# Altium schematic symbol library Symbols.SchLib: 82 symbols
Pins are listed as number, name and electrical type; pins without a type are passive.

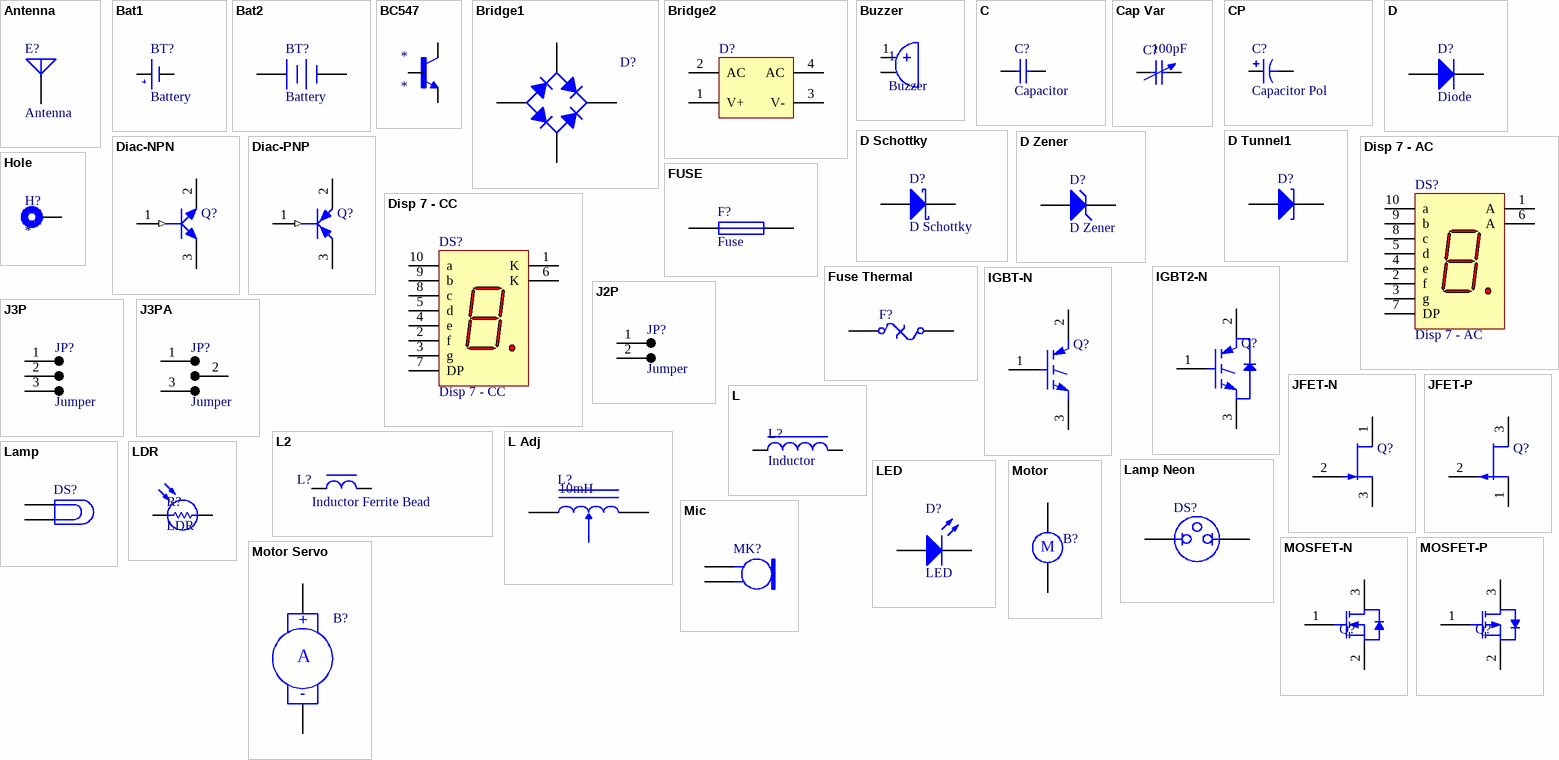
[diagram p0: symbols Antenna to Motor Servo]

## Antenna
designator E?
Generic Antenna; PartNumber: *; Manufacturer: *; Package Type: *
footprint PIN1 (Generic Antenna; 1 Lead)
pins: 1 A

## Bat1
designator BT?, comment Battery
Singlecell Battery; Manufacturer: *; Package Type: *; PartNumber: *
footprint BAT-2
footprint BAT CR2032 (Bateria Lithium 3V CR2032)
pins: 1 +, 2 -

## Bat2
designator BT?, comment Battery
Multicell Battery; Manufacturer: *; Package Type: *; PartNumber: *
footprint BAT-2
footprint BAT CR2032 (Bateria Lithium 3V CR2032)
pins: 1 +, 2 -

## BC547
designator *
footprint bc547
pins: 1 E, 2 B, 3 C

## Bridge1
designator D?
Full Wave Diode Bridge; PartNumber: *; Package Type: *; Manufacturer: *
footprint D-38 (Bridge Rectifier; 4 Terminals; Body 9.4 x 9.4 mm (typ); Pitch 5.08 mm)
simulation model BRIDGE (Spice Subcircuit)
footprint D-46_6A (Bridge Rectifier; 4 Terminals; Body 16.8 x 16.8 mm (typ); Pitch 10.67 mm)
pins: 1 K, 2 C, 3 A, 4 C

## Bridge2
designator D?
Diode Bridge; PartNumber: *; Package Type: *; Manufacturer: *
footprint D-46_6A (Bridge Rectifier; 4 Terminals; Body 16.8 x 16.8 mm (typ); Pitch 10.67 mm)
simulation model BRIDGE (Spice Subcircuit)
footprint D-38 (Bridge Rectifier; 4 Terminals; Body 9.4 x 9.4 mm (typ); Pitch 5.08 mm)
pins: 1 V+, 2 AC, 3 V-, 4 AC

## Buzzer
designator 1
Manufacturer: *; PartNumber: *; Package Type: *
footprint BUZZER_254-PB521 (PCB Buzzer 2.8 kHz 100dB)
footprint BUZZER_PK-20A38PQ (PCB Buzzer 3 a 24V 95dB @ 12V)
pins: 1, 2 0

## C
designator C?, comment Capacitor
Value: 1; Manufacturer: *; PartNumber: *; Package Type: *
footprint C0603[0201] (Chip Capacitor; Body 0.6 x 0.3 mm (LxW typ))
footprint C1005[0402] (Chip Capacitor; Body 1.0 x 0.5 mm (LxW typ))
footprint C1608[0603] (Chip Capacitor; Body 1.6 x 0.8 mm (LxW typ))
footprint C2012[0805] (Chip Capacitor; Body 2.0 x 1.2 mm (LxW typ))
footprint C3216[1206] (Chip Capacitor; Body 3.2 x 1.6 mm (LxW typ))
footprint C3225[1210] (Chip Capacitor; Body 3.2 x 2.5 mm (LxW typ))
footprint C4532[1812] (Chip Capacitor; Body 4.5 x 3.2 mm (LxW typ))
footprint C4564[1825] (Chip Capacitor; Body 4.5 x 6.4 mm (LxW typ))
footprint C7260[2824] (EIA2824)
footprint RAD-0.2
simulation model CAP (Default semiconductor capacitor)
pins: 1, 2

## Cap Var
designator C?  value 100pF
Variable or Adjustable Capacitor; PartNumber: *; Package Type: *; Manufacturer: *
signal-integrity model Cap Var
pins: 1, 2

## CP
designator C?, comment Capacitor Pol
Polarized Capacitor; Manufacturer: *; PartNumber: *; Package Type: *; Value: *
simulation model CAP (Capacitor)
signal-integrity model Cap Pol
footprint CAPPR5-6.3x11 (Capacitor, Electrolytic, Radial; Body 6.3 x 11 mm (Dia.xH typ))
footprint CAPPR5-8x14 (Capacitor, Electrolytic, Radial; Body 8 x 14 mm (Dia.xH typ))
footprint CAPPR5-10x16 (Capacitor, Electrolytic, Radial; Body 10 x 16 mm (Dia.xH typ))
footprint CAPPR5-13x21 (Capacitor, Electrolytic, Radial; Body 13 x 21 mm (Dia.xH typ))
footprint TAJA-3216 (Capacitor, SM Tantalum; Body 3.2 x 1.6 mm (LxW typ))
footprint TAJB-3528 (Capacitor, SM Tantalum; Body 3.5 x 2.8 mm (LxW typ))
footprint TAJC-6032 (Capacitor, SM Tantalum; Body 6.0 x 3.2 mm (LxW typ))
footprint TAJD-7343 (Capacitor, SM Tantalum; Body 7.3 x 4.3 mm (LxW typ))
footprint Cap_Al_SMD_3.3x3.3mm
footprint Cap_Al_SMD_A5_4.3x4.3mm
footprint Cap_Al_SMD_B6_5.3x5.3mm
footprint Cap_Al_SMD_C6_6.6x6.6mm
pins: 1, 2
1 alternate drawing of the same symbol

## D
designator D?, comment Diode
Manufacturer: *; PartNumber: *; Package Type: *
simulation model DIODE (Diode)
signal-integrity model Diode
footprint SOD-80/MLL34 (Metal Electrode Face (MELF) Diode; Body 3.5 x 1.7 mm (LxDia))
footprint DO214AC
footprint DIODE-1N400X
footprint DIODE-SIGNAL
footprint DO-7 (Diode, Axial; Body 7 x 2.7 mm (LxDia. max), Lead Dia. 0.53 mm (max))
footprint DO-35 (Diode, Axial; Body 3.8 x 1.9 mm (LxDia. max), Lead Dia. 0.53 mm (max))
pins: 1 A, 2 K

## D Schottky
designator D?
Schottky Diode; Manufacturer: *; PartNumber: *; Package Type: *
simulation model SKYDIODE (Diode)
signal-integrity model D Schottky
footprint DIODE-SIGNAL
footprint DO214AC
footprint SOD-80/MLL34 (Metal Electrode Face (MELF) Diode; Body 3.5 x 1.7 mm (LxDia))
footprint DIODE-1N400X
footprint DO-7 (Diode, Axial; Body 7 x 2.7 mm (LxDia. max), Lead Dia. 0.53 mm (max))
footprint DO-35 (Diode, Axial; Body 3.8 x 1.9 mm (LxDia. max), Lead Dia. 0.53 mm (max))
pins: 1 A, 2 K

## D Tunnel1
designator D?
Tunnel Diode - RLC Model; PartNumber: *; Package Type: *; Manufacturer: *
simulation model DTUNNEL1 (Spice Subcircuit)
signal-integrity model D Tunnel
footprint DIODE-1N400X
footprint DIODE-SIGNAL
footprint DO214AC
footprint SOD-80/MLL34 (Metal Electrode Face (MELF) Diode; Body 3.5 x 1.7 mm (LxDia))
pins: 1 A, 2 K

## D Zener
designator D?
Zener Diode; Manufacturer: *; PartNumber: *; Package Type: *
simulation model ZENER (Diode)
signal-integrity model D Zener
footprint DIODE-SIGNAL
footprint DIODE-1N400X
footprint SOD-80/MLL34 (Metal Electrode Face (MELF) Diode; Body 3.5 x 1.7 mm (LxDia))
footprint DO214AC
footprint DO-7 (Diode, Axial; Body 7 x 2.7 mm (LxDia. max), Lead Dia. 0.53 mm (max))
footprint DO-35 (Diode, Axial; Body 3.8 x 1.9 mm (LxDia. max), Lead Dia. 0.53 mm (max))
pins: 1 A, 2 K

## Diac-NPN
designator Q?
DIAC; Manufacturer: *; PartNumber: *; Package Type: *
footprint TO-262-AA (TO, Thru-Hole, Vertical, Heatsink Mounted; 3 In-Line Leads; Pitch 2.54 mm)
footprint TO-92 (TO, Flat Index; 3 In-Line, Axial Leads; Body Dia. 4.8mm; Leads 0.48 x 0.51 mm (max))
footprint TO-220
footprint SOT23 (SOT-23; 3 Leads; Body 3.0 x 2.6 mm, inc. leads (LxW max))
footprint SOT89N (SOT89, 3-Leads, Body 4.5x2.4 mm, Pitch 1.5mm, Lead Span 4.1mm, IPC Medium Density)
pins: 1 B (in), 2 C, 3 E

## Diac-PNP
designator Q?
DIAC; Manufacturer: *; PartNumber: *; Package Type: *
footprint SOT89N (SOT89, 3-Leads, Body 4.5x2.4 mm, Pitch 1.5mm, Lead Span 4.1mm, IPC Medium Density)
footprint TO-92 (TO, Flat Index; 3 In-Line, Axial Leads; Body Dia. 4.8mm; Leads 0.48 x 0.51 mm (max))
footprint TO-220
footprint SOT23 (SOT-23; 3 Leads; Body 3.0 x 2.6 mm, inc. leads (LxW max))
footprint TO-262-AA (TO, Thru-Hole, Vertical, Heatsink Mounted; 3 In-Line Leads; Pitch 2.54 mm)
pins: 1 B (in), 2 E, 3 C

## Disp 7 - AC
designator DS?
7.62 mm Black Surface HER 7-Segment Display: CA, RH DP; Manufacturer: *; Package Type: *; PartNumber: *
simulation model HDSP_A211 (SUBCKT)
footprint LEDDIP-10/C15.24RHD (LED, 7-Segment Display, 14.2 mm, RHD; 10 Leads; Row Space 15.24 mm; Pitch 2.54 mm)
pins: 1 A "Anode", 2 f "Cathode", 3 g "Cathode", 4 e "Cathode", 5 d "Cathode", 6 A "Anode", 7 DP "Cathode", 8 c "Cathode", 9 b "Cathode", 10 a "Cathode"

## Disp 7 - CC
designator DS?
7.62 mm Black Surface HER 7-Segment Display: CC, RH DP; ComponentLink1Description: Manufacturer Link; ComponentLink1URL: http://www.agilent.com/; Manufacturer: *; Package Type: *; PartNumber: *
simulation model HDSP_A213 (SUBCKT)
footprint LEDDIP-10/C15.24RHD (LED, 7-Segment Display, 14.2 mm, RHD; 10 Leads; Row Space 15.24 mm; Pitch 2.54 mm)
pins: 1 K "Cathode", 2 f "Anode", 3 g "Anode", 4 e "Anode", 5 d "Anode", 6 K "Cathode", 7 DP "Anode", 8 c "Anode", 9 b "Anode", 10 a "Anode"

## FUSE
designator F?, comment Fuse
Manufacturer: *; Package Type: *; PartNumber: *
simulation model FUSE (Spice Subcircuit)
footprint FUSE-5X20
pins: 1, 2

## Fuse Thermal
designator F?
Thermal Fuse; Manufacturer: *; PartNumber: *; Package Type: *
footprint PIN-W2/E2.8 (Thru-Hole; 2 Leads)
pins: 1, 2

## Hole
designator H?
footprint HOLE_M2
footprint HOLE_M3
footprint HOLE_M4
pins: 1

## IGBT2-N
designator Q?
Insulated Gate Bipolar Transistor (N-Channel); ComponentLink1Description: Manufacturer Link; ComponentLink1URL: http://www.irf.com/; Manufacturer: *; Package Type: *; PartNumber: *
simulation model IRGPC40U (Spice Subcircuit)
footprint TO-220
footprint TO-220HR (TO, Thru-Hole, Horizontal Bottom Layer, Heatsink Mounted; 3 In-Line Leads; Pitch 2.54 mm)
footprint TO-247 (SIP with Mounting Hole; 3 Leads; Body 20 x 15.6 x 5 mm (typ); Pitch 5.45 mm)
footprint TO-254-AA (TO, Thru-Hole, Vertical, Heatsink Mounted; 3 In-Line Leads; Pitch 3.81 mm)
footprint TO-262-AA (TO, Thru-Hole, Vertical, Heatsink Mounted; 3 In-Line Leads; Pitch 2.54 mm)
footprint TO-264-AA (SIP with Mounting Hole; 3 Leads; Body 26 x 20 x 5 mm (typ); Pitch 5.45 mm)
pins: 1 G, 2 C, 3 E

## IGBT-N
designator Q?
Insulated Gate Bipolar Transistor (N-Channel); ComponentLink1Description: Manufacturer Link; ComponentLink1URL: http://www.irf.com/; Manufacturer: *; Package Type: *; PartNumber: *
simulation model IRGPC40U (Spice Subcircuit)
footprint TO-220
footprint TO-220HR (TO, Thru-Hole, Horizontal Bottom Layer, Heatsink Mounted; 3 In-Line Leads; Pitch 2.54 mm)
footprint TO-247 (SIP with Mounting Hole; 3 Leads; Body 20 x 15.6 x 5 mm (typ); Pitch 5.45 mm)
footprint TO-254-AA (TO, Thru-Hole, Vertical, Heatsink Mounted; 3 In-Line Leads; Pitch 3.81 mm)
footprint TO-262-AA (TO, Thru-Hole, Vertical, Heatsink Mounted; 3 In-Line Leads; Pitch 2.54 mm)
footprint TO-264-AA (SIP with Mounting Hole; 3 Leads; Body 26 x 20 x 5 mm (typ); Pitch 5.45 mm)
pins: 1 G, 2 C, 3 E

## J2P
designator JP?, comment Jumper
Manufacturer: *; PartNumber: *; Package Type: *
footprint JUMPER2 (Jumper 2 vias)
footprint R2012[0805] (Chip Resistor; Body 2.0 x 1.3 mm (LxW typ))
pins: 1, 2

## J3P
designator JP?, comment Jumper
Manufacturer: *; PartNumber: *; Package Type: *
footprint JUMPER[0805] (0R Chip Resistor Jumper; Body 2.0 x 1.3 mm (LxW typ))
footprint HDR1X3
pins: 1, 2, 3

## J3PA
designator JP?, comment Jumper
Manufacturer: *; PartNumber: *; Package Type: *
footprint JUMPER[0805] (0R Chip Resistor Jumper; Body 2.0 x 1.3 mm (LxW typ))
footprint HDR1X3
pins: 1, 2, 3

## JFET-N
designator Q?
N-Channel JFET; Published: 8-Jun-2000; LatestRevisionDate: 17-Jul-2002; LatestRevisionNote: Re-released for DXP Platform.; PackageReference: TO-254-AA; Publisher: Altium Limited; Code_JEDEC: TO-254-AA
simulation model NJFET
footprint TO-92 (TO, Flat Index; 3 In-Line, Axial Leads; Body Dia. 4.8mm; Leads 0.48 x 0.51 mm (max))
footprint TO-220
footprint SOT23 (SOT-23; 3 Leads; Body 3.0 x 2.6 mm, inc. leads (LxW max))
pins: 1 D, 2 G, 3 S

## JFET-P
designator Q?
P-Channel JFET; Published: 8-Jun-2000; LatestRevisionDate: 17-Jul-2002; LatestRevisionNote: Re-released for DXP Platform.; PackageReference: TO-18A; Publisher: Altium Limited; PackageDescription: SC-89; 3 Flat Leads; Body 1.6 x 1.6 x 0.7 mm, inc leads (LxWxH typ)
simulation model PJFET
footprint TO-92 (TO, Flat Index; 3 In-Line, Axial Leads; Body Dia. 4.8mm; Leads 0.48 x 0.51 mm (max))
footprint TO-220
footprint SOT23 (SOT-23; 3 Leads; Body 3.0 x 2.6 mm, inc. leads (LxW max))
pins: 1 D, 2 G, 3 S

## L
designator L?, comment Inductor
Manufacturer: *; PartNumber: *; Package Type: *; Value: *
simulation model INDUCTOR (Inductor)
signal-integrity model Inductor
footprint R1608[0603] (Chip Resistor; Body 1.6 x 0.8 mm (LxW typ))
footprint R2012[0805] (Chip Resistor; Body 2.0 x 1.3 mm (LxW typ))
footprint R1005[0402] (Chip Resistor; Body 1.1 x 0.5 mm (LxW typ))
footprint SRN6045 (Semi-chielded Power Inductorss)
footprint SRN6045TA
footprint SRP7028A (Bourns Inductor)
footprint NRS5030T (SMD Power Inductors NR Series S Type)
footprint R3216[1206] (Chip Resistor; Body 3.2 x 1.6 mm (LxW typ))
pins: 1, 2

## L2
designator L?, comment Inductor Ferrite Bead
Inductor; Manufacturer: *; PartNumber: *; Package Type: *; Value: *
simulation model INDUCTOR (Inductor)
signal-integrity model Inductor
footprint R1005[0402] (Chip Resistor; Body 1.1 x 0.5 mm (LxW typ))
footprint R1608[0603] (Chip Resistor; Body 1.6 x 0.8 mm (LxW typ))
footprint R2012[0805] (Chip Resistor; Body 2.0 x 1.3 mm (LxW typ))
footprint R3216[1206] (Chip Resistor; Body 3.2 x 1.6 mm (LxW typ))
footprint SRN6045 (Semi-chielded Power Inductorss)
footprint SRN6045TA
pins: 1, 2

## L Adj
designator L?  value 10mH
Adjustable Magnetic-Core Inductor; Set Position: 0.5; Package Type: *; PartNumber: *; Manufacturer: *
footprint AXIAL-1.0 (Axial Device, Thru-Hole; 2 Leads; 1.0 in Pin Spacing)
simulation model INDUCTOR (Inductor)
signal-integrity model Inductor Iron Adj
pins: 1, 2

## Lamp
designator DS?
Incandescent Bulb; PartNumber: *; Manufacturer: *; Package Type: *
footprint PIN2 (Incandescent Bulb; 2 Leads)
pins: 1, 2

## Lamp Neon
designator DS?
Neon Lamp; Manufacturer: *; Package Type: *; PartNumber: *
footprint PIN2 (Neon Lamp; 2 Leads)
pins: 1, 2

## LDR
designator R?
Resistor; Manufacturer: *; PartNumber: *; Package Type: *; Value: *
simulation model RESISTOR (Resistor)
signal-integrity model Res
footprint LDR (VT 900 Series LDR)
pins: 1, 2

## LED
designator D?
Manufacturer: *; PartNumber: *; Package Type: *
simulation model LED0 (Diode)
footprint LED_3MM_GREEN (Led 3 mm)
footprint LED_3MM_RED (Led 3 mm)
footprint LED_5MM_GREEN (Led 5 mm)
footprint LED_5MM_RED (Led 5 mm)
footprint LED-0603-G (0603 Green LED)
footprint LED-0603-R (0603 Red LED)
footprint LED-0805-G (0805 LED)
pins: 1 A, 2 K

## Mic
designator MK?
Microphone; Manufacturer: *; Package Type: *; PartNumber: *
footprint PIN2 (Microphone; 2 Leads)
pins: 1, 2

## MOSFET-N
designator Q?
N-Channel MOSFET; Manufacturer: *; PartNumber: *; Package Type: *
simulation model NMOS (MOSFET-N)
footprint SOT23 (SOT-23; 3 Leads; Body 3.0 x 2.6 mm, inc. leads (LxW max))
footprint TO-92 (TO, Flat Index; 3 In-Line, Axial Leads; Body Dia. 4.8mm; Leads 0.48 x 0.51 mm (max))
footprint TO-220
footprint TO-220HR (TO, Thru-Hole, Horizontal Bottom Layer, Heatsink Mounted; 3 In-Line Leads; Pitch 2.54 mm)
footprint TO-247 (SIP with Mounting Hole; 3 Leads; Body 20 x 15.6 x 5 mm (typ); Pitch 5.45 mm)
footprint TO-254-AA (TO, Thru-Hole, Vertical, Heatsink Mounted; 3 In-Line Leads; Pitch 3.81 mm)
footprint TO-262-AA (TO, Thru-Hole, Vertical, Heatsink Mounted; 3 In-Line Leads; Pitch 2.54 mm)
footprint TO-264-AA (SIP with Mounting Hole; 3 Leads; Body 26 x 20 x 5 mm (typ); Pitch 5.45 mm)
pins: 1 GATE, 2 SOURCE, 3 DRAIN

## MOSFET-P
designator Q?
P-Channel MOSFET; Manufacturer: *; PartNumber: *; Package Type: *
simulation model PMOS (MOSFET-P)
footprint SOT23 (SOT-23; 3 Leads; Body 3.0 x 2.6 mm, inc. leads (LxW max))
footprint TO-92 (TO, Flat Index; 3 In-Line, Axial Leads; Body Dia. 4.8mm; Leads 0.48 x 0.51 mm (max))
footprint TO-220
footprint TO-220HR (TO, Thru-Hole, Horizontal Bottom Layer, Heatsink Mounted; 3 In-Line Leads; Pitch 2.54 mm)
footprint TO-247 (SIP with Mounting Hole; 3 Leads; Body 20 x 15.6 x 5 mm (typ); Pitch 5.45 mm)
footprint TO-254-AA (TO, Thru-Hole, Vertical, Heatsink Mounted; 3 In-Line Leads; Pitch 3.81 mm)
footprint TO-262-AA (TO, Thru-Hole, Vertical, Heatsink Mounted; 3 In-Line Leads; Pitch 2.54 mm)
footprint TO-264-AA (SIP with Mounting Hole; 3 Leads; Body 26 x 20 x 5 mm (typ); Pitch 5.45 mm)
pins: 1 GATE, 2 SOURCE, 3 DRAIN

## Motor
designator B?
Motor, General Kind; Manufacturer: *; PartNumber: *; Package Type: *
footprint PIN2 (Photosensitive Diode; 2 Leads)
pins: 1, 2
text: M

## Motor Servo
designator B?
Servo Motor; Manufacturer: *; PartNumber: *; Package Type: *
footprint PIN2 (Photosensitive Diode; 2 Leads)
pins: 1 +, 2 -
text: A

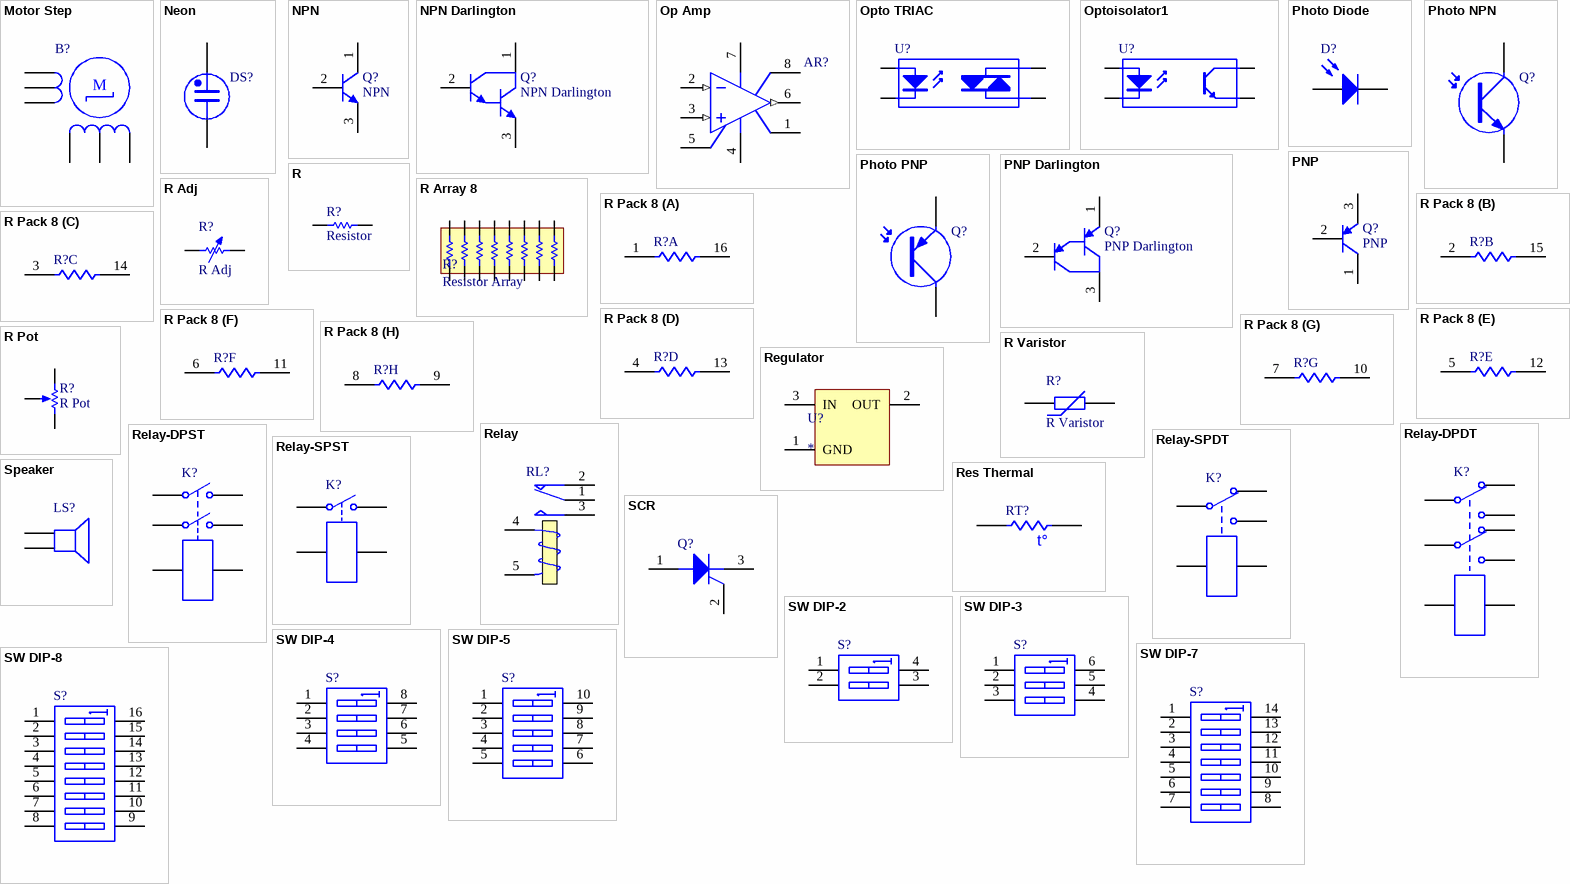
[diagram p1: symbols Motor Step to SW DIP-8]

## Motor Step
designator B?
Motor Stepper; Manufacturer: *; PartNumber: *; Package Type: *
pins: 1, 2, 3, 4, 5, 6
text: M

## Neon
designator DS?
Neon Bulb; Manufacturer: *; PartNumber: *; Package Type: *
footprint PIN2 (Neon Bulb; 2 Leads)
pins: 1, 2

## NPN
designator Q?
NPN Bipolar Transistor; Manufacturer: *; PartNumber: *; Package Type: *
simulation model NPN
signal-integrity model NPN
footprint TO-220
footprint TO-92 (TO, Flat Index; 3 In-Line, Axial Leads; Body Dia. 4.8mm; Leads 0.48 x 0.51 mm (max))
footprint SOT23 (SOT-23; 3 Leads; Body 3.0 x 2.6 mm, inc. leads (LxW max))
footprint D2PAK (D2-PAK/TO-263-AB; 3 Leads (1 Cropped); Body 15.5 (inc. leads) x 10.5 mm (LxW max))
footprint TO-220HR (TO, Thru-Hole, Horizontal Bottom Layer, Heatsink Mounted; 3 In-Line Leads; Pitch 2.54 mm)
footprint TO-247 (SIP with Mounting Hole; 3 Leads; Body 20 x 15.6 x 5 mm (typ); Pitch 5.45 mm)
footprint TO-254-AA (TO, Thru-Hole, Vertical, Heatsink Mounted; 3 In-Line Leads; Pitch 3.81 mm)
footprint TO-262-AA (TO, Thru-Hole, Vertical, Heatsink Mounted; 3 In-Line Leads; Pitch 2.54 mm)
footprint TO-264-AA (SIP with Mounting Hole; 3 Leads; Body 26 x 20 x 5 mm (typ); Pitch 5.45 mm)
pins: 1 C, 2 B, 3 E

## NPN Darlington
designator Q?
NPN Darlington Bipolar Transistor; Package Type: *; PartNumber: *; Manufacturer: *
simulation model NPN1 (Spice Subcircuit)
signal-integrity model NPN
footprint SOT23 (SOT-23; 3 Leads; Body 3.0 x 2.6 mm, inc. leads (LxW max))
footprint D2PAK (D2-PAK/TO-263-AB; 3 Leads (1 Cropped); Body 15.5 (inc. leads) x 10.5 mm (LxW max))
footprint TO-92 (TO, Flat Index; 3 In-Line, Axial Leads; Body Dia. 4.8mm; Leads 0.48 x 0.51 mm (max))
footprint TO-220
footprint TO-220HR (TO, Thru-Hole, Horizontal Bottom Layer, Heatsink Mounted; 3 In-Line Leads; Pitch 2.54 mm)
footprint TO-247 (SIP with Mounting Hole; 3 Leads; Body 20 x 15.6 x 5 mm (typ); Pitch 5.45 mm)
footprint TO-254-AA (TO, Thru-Hole, Vertical, Heatsink Mounted; 3 In-Line Leads; Pitch 3.81 mm)
footprint TO-262-AA (TO, Thru-Hole, Vertical, Heatsink Mounted; 3 In-Line Leads; Pitch 2.54 mm)
footprint TO-264-AA (SIP with Mounting Hole; 3 Leads; Body 26 x 20 x 5 mm (typ); Pitch 5.45 mm)
pins: 1 C, 2 B, 3 E

## Op Amp
designator AR?
FET Operational Amplifier; ComponentLink1Description: Manufacturer Link; ComponentLink1URL: http://www.analog.com/; Manufacturer: *; PartNumber: *; Package Type: *
simulation model AD645A (Spice Subcircuit)
footprint DIP-8 (DIP, 8-Pin, Row Spacing 7.62 mm, Pitch 2.54 mm)
footprint SO8_M (SOIC, 8-Leads, Body 4.9x3.9mm, Pitch 1.27mm, IPC Low Density)
pins: 1 OS NUL, 2 IN- (in), 3 IN+ (in), 4 V- (power), 5 OS NUL, 6 OUT (out), 7 V+ (power), 8 TAB

## Opto TRIAC
designator U?
Opto-Triac; Manufacturer: *; PartNumber: *; Package Type: *
footprint DIP-4 (DIP, 4-Pin, Row Spacing 7.62 mm, Pitch 2.54 mm)
pins: 1 A, 2 K, 3 A/K, 4 A/K

## Optoisolator1
designator U?
4-Pin Phototransistor Optocoupler; Manufacturer: *; Package Type: *; PartNumber: *
footprint DIP-4 (DIP; 4 Leads; Row Spacing 7.62 mm; Pitch 2.54 mm)
pins: 1 A "Anode", 2 K "Cathode", 3 E "Emitter", 4 C "Collector"

## Photo Diode
designator D?
Photosensitive Diode; PartNumber: *; Manufacturer: *; Package Type: *
footprint PIN2 (Photosensitive Diode; 2 Leads)
pins: 1 A, 2 K

## Photo NPN
designator Q?
NPN Phototransistor; Package Type: *; PartNumber: *; Manufacturer: *
footprint TO-220_A (TO, Thru-Hole, Vertical, Heatsink Mounted; 3 In-Line Leads (1 Absent); Pitch 2.54 mm)
pins: 1 C, 3 E

## Photo PNP
designator Q?
PNP Phototransistor; PartNumber: *; Package Type: *; Manufacturer: *
footprint TO-220_A (TO, Thru-Hole, Vertical, Heatsink Mounted; 3 In-Line Leads (1 Absent); Pitch 2.54 mm)
pins: 1 C, 3 E

## PNP
designator Q?
PNP Bipolar Transistor; Manufacturer: *; PartNumber: *; Package Type: *
simulation model PNP
signal-integrity model PNP
footprint SOT23 (SOT-23; 3 Leads; Body 3.0 x 2.6 mm, inc. leads (LxW max))
footprint D2PAK (D2-PAK/TO-263-AB; 3 Leads (1 Cropped); Body 15.5 (inc. leads) x 10.5 mm (LxW max))
footprint TO-92 (TO, Flat Index; 3 In-Line, Axial Leads; Body Dia. 4.8mm; Leads 0.48 x 0.51 mm (max))
footprint TO-220
footprint TO-220HR (TO, Thru-Hole, Horizontal Bottom Layer, Heatsink Mounted; 3 In-Line Leads; Pitch 2.54 mm)
footprint TO-247 (SIP with Mounting Hole; 3 Leads; Body 20 x 15.6 x 5 mm (typ); Pitch 5.45 mm)
footprint TO-254-AA (TO, Thru-Hole, Vertical, Heatsink Mounted; 3 In-Line Leads; Pitch 3.81 mm)
footprint TO-262-AA (TO, Thru-Hole, Vertical, Heatsink Mounted; 3 In-Line Leads; Pitch 2.54 mm)
footprint TO-264-AA (SIP with Mounting Hole; 3 Leads; Body 26 x 20 x 5 mm (typ); Pitch 5.45 mm)
pins: 1 C, 2 B, 3 E

## PNP Darlington
designator Q?
PNP Darlington Bipolar Transistor; ComponentLink1Description: Manufacturer Link; ComponentLink1URL: http://www.zetex.com/; Manufacturer: *; Package Type: *; PartNumber: *
simulation model PNP1 (Spice Subcircuit)
signal-integrity model PNP
footprint SOT23 (SOT-23; 3 Leads; Body 3.0 x 2.6 mm, inc. leads (LxW max))
footprint D2PAK (D2-PAK/TO-263-AB; 3 Leads (1 Cropped); Body 15.5 (inc. leads) x 10.5 mm (LxW max))
footprint TO-92 (TO, Flat Index; 3 In-Line, Axial Leads; Body Dia. 4.8mm; Leads 0.48 x 0.51 mm (max))
footprint TO-220
footprint TO-220HR (TO, Thru-Hole, Horizontal Bottom Layer, Heatsink Mounted; 3 In-Line Leads; Pitch 2.54 mm)
footprint TO-247 (SIP with Mounting Hole; 3 Leads; Body 20 x 15.6 x 5 mm (typ); Pitch 5.45 mm)
footprint TO-254-AA (TO, Thru-Hole, Vertical, Heatsink Mounted; 3 In-Line Leads; Pitch 3.81 mm)
footprint TO-262-AA (TO, Thru-Hole, Vertical, Heatsink Mounted; 3 In-Line Leads; Pitch 2.54 mm)
footprint TO-264-AA (SIP with Mounting Hole; 3 Leads; Body 26 x 20 x 5 mm (typ); Pitch 5.45 mm)
pins: 1 E, 2 B, 3 C

## R
designator R?, comment Resistor
Value: 0; Manufacturer: *; PartNumber: *; Package Type: *
simulation model RES (Semiconductor Resistor)
signal-integrity model Res Semi
footprint R1005[0402] (Chip Resistor; Body 1.1 x 0.5 mm (LxW typ))
footprint R1608[0603] (Chip Resistor; Body 1.6 x 0.8 mm (LxW typ))
footprint R2012[0805] (Chip Resistor; Body 2.0 x 1.3 mm (LxW typ))
footprint R3216[1206] (Chip Resistor; Body 3.2 x 1.6 mm (LxW typ))
footprint R3225[1210] (Chip Resistor; Body 3.2 x 2.5 mm (LxW typ))
footprint R5025[2010] (Chip Resistor; Body 5.0 x 2.5 mm (LxW typ))
footprint R6332[2512] (Chip Resistor; Body 6.3 x 3.2 mm (LxW typ))
footprint AXIAL-0.4
pins: 1, 2

## R Adj
designator R?
Variable Resistor; Manufacturer: *; PartNumber: *; Package Type: *; Value: *; Set Position: *
simulation model VRES (Variable Resistor)
signal-integrity model Res Adj
footprint VR1
footprint VR6
pins: 1, 2

## R Array 8
designator R?, comment Resistor Array
Manufacturer: *; PartNumber: *; Package Type: *
footprint EXB-2HV (0602x8 Resistor Array)
footprint SOIC16_M (SOIC, 16-Leads, Body 9.9x3.9mm, Pitch 1.27mm, IPC Low Density)
pins: 1, 2, 3, 4, 5, 6, 7, 8, 9, 10, 11, 12, 13, 14, 15, 16

## R Pack 8
designator R?
Isolated Resistor Network - Parts; Value: 1K; Package Type: *; PartNumber: *; Manufacturer: *
footprint SOIC16_M (SOIC, 16-Leads, Body 9.9x3.9mm, Pitch 1.27mm, IPC Low Density)
simulation model RESISTOR (Resistor)
signal-integrity model Res Pack
footprint EXB-2HV (0602x8 Resistor Array)
part A pins: 1, 16
part B pins: 2, 15
part C pins: 3, 14
part D pins: 4, 13
part E pins: 5, 12
part F pins: 6, 11
part G pins: 7, 10
part H pins: 8, 9

## R Pot
designator R?
Potentiometer; Manufacturer: *; PartNumber: *; Package Type: *; Value: *; Set Position: *
simulation model POT (Potentiometer)
footprint VR1
footprint VR6
pins: 1 TOP, 2 BOT, 3 TAP
1 alternate drawing of the same symbol

## R Varistor
designator R?
Varistor (Voltage-Sensitive Resistor); Manufacturer: *; PartNumber: *; Package Type: *
footprint CAPRD12.5-25x5 (Capacitor, Ceramic, Thru-Hole, Disc; Body 25 x 5 mm (LxW max) Pin Spacing 12.5 mm (typ))
footprint CAPRD10-12x5 (Capacitor, Ceramic, Thru-Hole, Disc; Body 12 x 5 mm (LxW max) Pin Spacing 10 mm (typ))
pins: 1, 2

## Regulator
designator U?
Manufacturer: *; Package Type: *; PartNumber: *
footprint SOT223_N (SOT223, 4-Leads, Body 6.5x3.5mm, Pitch 2.3mm, Lead Span 7mm, IPC Medium Density)
pins: 1 GND, 2 OUT, 3 IN

## Relay
designator RL?
SPDT Relay; Manufacturer: *; Package Type: *; PartNumber: *
simulation model SPDTRELAY (Spice Subcircuit)
footprint FINDER-36.11
pins: 1 COM, 2 NC, 3 NO, 4 T1, 5 T2

## Relay-DPDT
designator K?
Dual-Pole Dual-Throw Relay; Manufacturer: *; Package Type: *; PartNumber: *
simulation model DPDTRELAY (Spice Subcircuit)
pins: 1, 2, 3, 4, 5, 6, 7, 8

## Relay-DPST
designator K?
Dual-Pole Single-Throw Relay; PartNumber: *; Package Type: *; Manufacturer: *
simulation model DPSTRELAY (Spice Subcircuit)
pins: 1, 2, 3, 4, 5, 6

## Relay-SPDT
designator K?
Single-Pole Dual-Throw Relay; Package Type: *; PartNumber: *; Manufacturer: *
simulation model SPDTRELAY (Spice Subcircuit)
pins: 1, 2, 3, 4, 5

## Relay-SPST
designator K?
Single-Pole Single-Throw Relay; Package Type: *; PartNumber: *; Manufacturer: *
simulation model SPSTRELAY (Spice Subcircuit)
pins: 1, 2, 3, 4

## Res Thermal
designator RT?
Thermistor; Manufacturer: *; Package Type: *; PartNumber: *
footprint AXIAL-0.4
footprint R2012[0805] (Chip Resistor; Body 2.0 x 1.3 mm (LxW typ))
footprint R3216[1206] (Chip Resistor; Body 3.2 x 1.6 mm (LxW typ))
pins: 1, 2
text: t°

## SCR
designator Q?
Silicon Controlled Rectifier; Manufacturer: *; Package Type: *; PartNumber: *
simulation model SCR (Spice Subcircuit)
footprint TO-220
footprint TO-92 (TO, Flat Index; 3 In-Line, Axial Leads; Body Dia. 4.8mm; Leads 0.48 x 0.51 mm (max))
footprint TO-247 (SIP with Mounting Hole; 3 Leads; Body 20 x 15.6 x 5 mm (typ); Pitch 5.45 mm)
footprint TO-254-AA (TO, Thru-Hole, Vertical, Heatsink Mounted; 3 In-Line Leads; Pitch 3.81 mm)
footprint TO-262-AA (TO, Thru-Hole, Vertical, Heatsink Mounted; 3 In-Line Leads; Pitch 2.54 mm)
footprint TO-264-AA (SIP with Mounting Hole; 3 Leads; Body 26 x 20 x 5 mm (typ); Pitch 5.45 mm)
pins: 1 A, 2 G, 3 K

## Speaker
designator LS?
Loudspeaker; PartNumber: *; Package Type: *; Manufacturer: *
footprint PIN2 (Loudspeaker; 2 Leads)
pins: 1, 2

## SW DIP-2
designator S?
DIP Switch, 2 Position, SPST; Manufacturer: *; Package Type: *; PartNumber: *
footprint DIP-4 (DIP; 4 Leads; Row Spacing 7.62 mm; Pitch 2.54 mm)
simulation model dpsw2 (Spice Subcircuit)
pins: 1 A1, 2 A2, 3 B2, 4 B1

## SW DIP-3
designator S?
DIP Switch, 3 Position, SPST; Manufacturer: *; Package Type: *; PartNumber: *
footprint DIP-6 (DIP; 6 Leads; Row Spacing 7.62 mm; Pitch 2.54 mm)
simulation model dpsw3 (Spice Subcircuit)
pins: 1 A1, 2 A2, 3 A3, 4 B3, 5 B2, 6 B1

## SW DIP-4
designator S?
DIP Switch, 4 Position, SPST; Manufacturer: *; Package Type: *; PartNumber: *
simulation model dpsw4 (Spice Subcircuit)
footprint DIP-8 (DIP, 8-Pin, Row Spacing 7.62 mm, Pitch 2.54 mm)
pins: 1 A1, 2 A2, 3 A3, 4 A4, 5 B4, 6 B3, 7 B2, 8 B1

## SW DIP-5
designator S?
DIP Switch, 5 Position, SPST; Manufacturer: *; Package Type: *; PartNumber: *
simulation model dpsw5 (Spice Subcircuit)
footprint DIP-10 (DIP, 10-Pin, Row Spacing 7.62 mm, Pitch 2.54 mm)
pins: 1 A1, 2 A2, 3 A3, 4 A4, 5 A5, 6 B5, 7 B4, 8 B3, 9 B2, 10 B1

## SW DIP-7
designator S?
DIP Switch, 7 Position, SPST; Manufacturer: *; Package Type: *; PartNumber: *
footprint DIP-14 (DIP; 14 Leads; Row Spacing 7.62 mm; Pitch 2.54 mm)
simulation model dpsw7 (Spice Subcircuit)
pins: 1 A1, 2 A2, 3 A3, 4 A4, 5 A5, 6 A6, 7 A7, 8 B7, 9 B6, 10 B5, 11 B4, 12 B3, 13 B2, 14 B1

## SW DIP-8
designator S?
DIP Switch, 8 Position, SPST; Manufacturer: *; Package Type: *; PartNumber: *
simulation model dpsw8 (Spice Subcircuit)
footprint DIP-16 (DIP, 16-Pin, Row Spacing 7.62 mm, Pitch 2.54 mm)
pins: 1 A1, 2 A2, 3 A3, 4 A4, 5 A5, 6 A6, 7 A7, 8 A8, 9 B8, 10 B7, 11 B6, 12 B5, 13 B4, 14 B3, 15 B2, 16 B1

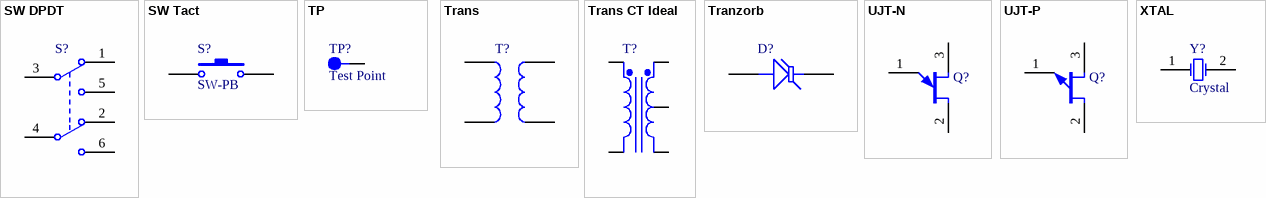
[diagram p2: symbols SW DPDT to XTAL]

## SW DPDT
designator S?
Switch; Manufacturer: *; Package Type: *; PartNumber: *
footprint CHAVE-HH-1
pins: 1 NC1, 2 NC2, 3 COMMON1, 4 COMMON2, 5 NO1, 6 NO2

## SW Tact
designator S?, comment SW-PB
Tactile Switch; Manufacturer: *; PartNumber: *; Package Type: *
footprint PB-SW-SMT (SMT TACT SWITCH 6MM)
footprint PB-SW
pins: 1, 2

## TP
designator TP?, comment Test Point
Manufacturer: *; PartNumber: *; Package Type: *
footprint TP (Test point through hole)
pins: 1

## Trans
designator T?
Transformer; PartNumber: *; Package Type: *; Manufacturer: *
simulation model TRANSFORMER (Transformer)
pins: 1, 2, 3, 4

## Trans CT Ideal
designator T?
Center-Tapped Transformer (Ideal); PartNumber: *; Package Type: *; Manufacturer: *
simulation model IDEALTRANSCT (Spice Subcircuit)
pins: 1 Pri+, 2 Pri-, 3 Sec+, 4 SecCT, 5 Sec-

## Tranzorb
designator D?
Transient Voltage Suppression (TVS) Diode; PartNumber: *; Package Type: *; Manufacturer: *
footprint DO-7 (Diode, Axial; Body 7 x 2.7 mm (LxDia. max), Lead Dia. 0.53 mm (max))
footprint DO-35 (Diode, Axial; Body 3.8 x 1.9 mm (LxDia. max), Lead Dia. 0.53 mm (max))
footprint DIODE-1N400X
footprint DIODE-SIGNAL
footprint DO214AC
pins: 1 A, 2 K

## UJT-N
designator Q?
Unijunction Transistor with N-Type Base; PartNumber: *; Package Type: *; Manufacturer: *
simulation model NUJT (Spice Subcircuit)
footprint TO-92 (TO, Flat Index; 3 In-Line, Axial Leads; Body Dia. 4.8mm; Leads 0.48 x 0.51 mm (max))
footprint TO-220
footprint SOT23 (SOT-23; 3 Leads; Body 3.0 x 2.6 mm, inc. leads (LxW max))
pins: 1 E, 2 B1, 3 B2

## UJT-P
designator Q?
Unijunction Transistor with P-Type Base; PartNumber: *; Package Type: *; Manufacturer: *
footprint TO-92 (TO, Flat Index; 3 In-Line, Axial Leads; Body Dia. 4.8mm; Leads 0.48 x 0.51 mm (max))
footprint TO-220
footprint SOT23 (SOT-23; 3 Leads; Body 3.0 x 2.6 mm, inc. leads (LxW max))
pins: 1 E, 2 B1, 3 B2

## XTAL
designator Y?, comment Crystal
Crystal Oscillator; Manufacturer: *; PartNumber: *; Package Type: *
simulation model XTAL (Spice Subcircuit)
footprint CRYSTAL-DT-38_32,768KHz
footprint CRYSTAL-HC49/4H_SMX (Quartz Crystal, SM; Body 13.4 (inc. leads) x 4.9 mm (LxW max))
footprint CRYSTAL-HC49S
footprint CRYSTAL-V
pins: 1 OSC1, 2 OSC2